# EAGLE library part TPS560430XDBVR (library TPS560430XDBVR)
SIMPLE SWITCHER 36-V, 600-mA Buck Regulator With High-Efficiency Sleep Mode Source: Datasheet <http://www.ti.com/lit/gpn/tps560430>
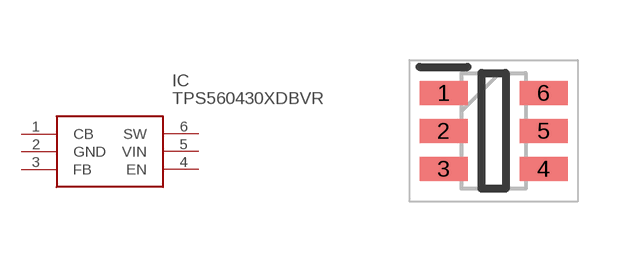
[diagram p0: symbol with the pads of SOT95P280X145-6N; footprint SOT95P280X145-6N]

Designator prefix IC

## TPS560430XDBVR (Description: SIMPLE SWITCHER 36-V, 600-mA Buck Regulator With High-Efficiency Sleep Mode; Height: 1.45mm; Manufacturer_Name: Texas Instruments; Manufacturer_Part_Number: TPS560430XDBVR)  [SOT95P280X145-6N]
1  CB
2  GND
3  FB
4  EN
5  VIN
6  SW

## Footprint SOT95P280X145-6N (pad centres in mm)
TPS560430XDBVR
smd 1.2 x 0.6: 1 -1.25,0.95; 2 -1.25,0; 3 -1.25,-0.95; 4 1.25,-0.95; 5 1.25,0; 6 1.25,0.95